# Altium footprint library capsense.PcbLib: 1 footprints
Each footprint in its own frame and in the unit in brackets; x right, y up, seen from the top. Pads: shape width x height; smd on the part's side, far side on the other; paste and mask are expansions set on the pad; w line width, h text height; cw(c..) or ccw(c..) is an arc to the next point about the centre after c.
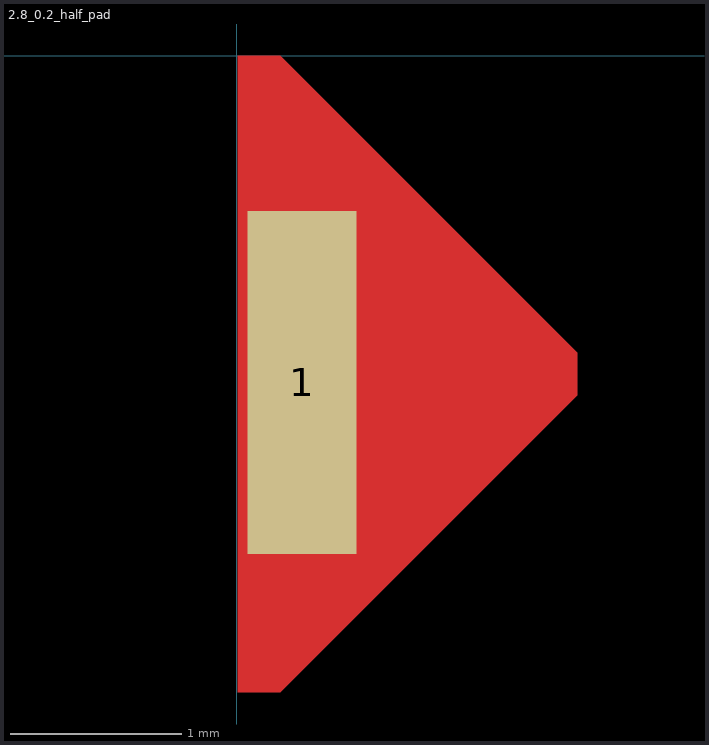
[diagram p0: the footprint, top view; thin cyan lines are the x and y axes]

## 2.8_0.2_half_pad [mil] "2.8 mm side length, 0.2mm spacing between electrodes, 3mm per signal line total"
pads (1):
  rect 25x78.74 smd paste-100 mask-100: 1(15,-75)
Top Layer:
  region: 10,0 0.26,0 0.25,-146.15 10,-146.15 78.21,-77.95 78.21,-68.21